# EAGLE library part MDBT40 (library MDBT40)
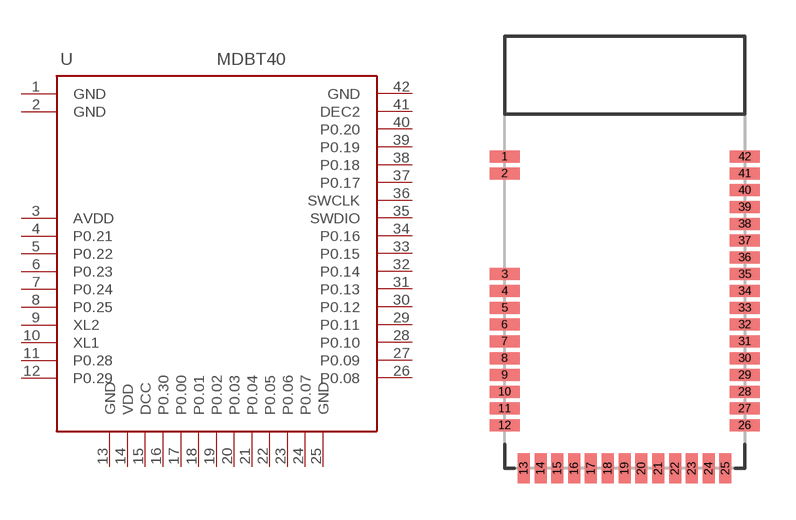
[diagram p0: symbol with the pads of MDBT40; footprint MDBT40]

Designator prefix -

## MDBT40SMD  [MDBT40]
1  GND
2  GND
3  AVDD
4  P0.21
5  P0.22
6  P0.23
7  P0.24
8  P0.25
9  XL2
10  XL1
11  P0.28
12  P0.29
13  GND
14  VDD
15  DCC
16  P0.30
17  P0.00
18  P0.01
19  P0.02
20  P0.03
21  P0.04
22  P0.05
23  P0.06
24  P0.07
25  GND
26  P0.08
27  P0.09
28  P0.10
29  P0.11
30  P0.12
31  P0.13
32  P0.14
33  P0.15
34  P0.16
35  SWDIO
36  SWCLK
37  P0.17
38  P0.18
39  P0.19
40  P0.20
41  DEC2
42  GND

## Footprint MDBT40 (pad centres in mm)
smd 1.25 x 0.5: 1 0.08,12.89; 2 0.08,12.19; 3 0.08,7.99; 4 0.08,7.29; 5 0.08,6.59; 6 0.08,5.89; 7 0.08,5.19; 8 0.08,4.49; 9 0.08,3.79; 10 0.08,3.09; 11 0.08,2.39; 12 0.08,1.69; 26 10.08,1.69; 27 10.08,2.39; 28 10.08,3.09; 29 10.08,3.79; 30 10.08,4.49; 31 10.08,5.19; 32 10.08,5.89; 33 10.08,6.59; 34 10.08,7.29; 35 10.08,7.99; 36 10.08,8.69; 37 10.08,9.39; 38 10.08,10.09; 39 10.08,10.79; 40 10.08,11.49; 41 10.08,12.19; 42 10.08,12.89
smd 0.5 x 1.25: 13 0.88,-0.11; 14 1.58,-0.11; 15 2.28,-0.11; 16 2.98,-0.11; 17 3.68,-0.11; 18 4.38,-0.11; 19 5.08,-0.11; 20 5.78,-0.11; 21 6.48,-0.11; 22 7.18,-0.11; 23 7.88,-0.11; 24 8.58,-0.11; 25 9.28,-0.11